# Altium integrated library TI_Logic_Gate.IntLib: 2017 symbols (part 39 of 56)
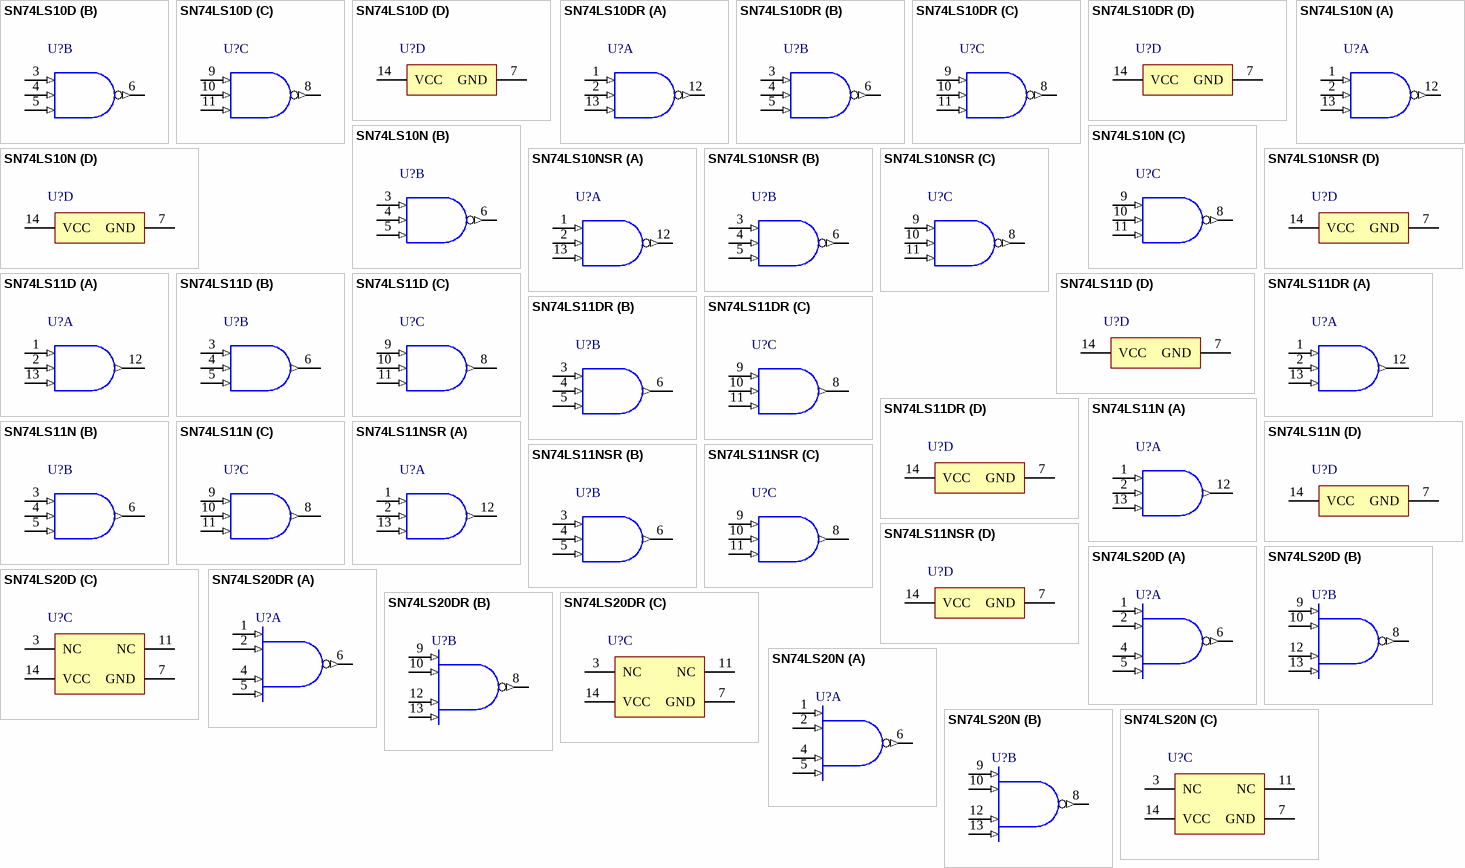
[diagram p263: symbols SN74LS10D to SN74LS20N]

## SN74LS20N
designator U?
Dual 4-input positive-NAND gates, N0014A, TUBE; Generic Part Number: SN74LS20; Manufacturer: Texas Instruments; PartNumber: SN74LS20N; VCC(Min)(V): 4.75; VCC(Max)(V): 5.25; Output Type: TTL; ICC @ Nom Voltage(Max)(mA): 0.011; Bits(#): 2; F @ Nom Voltage(Max)(Mhz): 35; Rating: Catalog; Technology Family: LS; Voltage(Nom)(V): 5; Schmitt Trigger: No; Output Drive (IOL/IOH)(Max)(mA): 0.4/-16; tpd @ Nom Voltage(Max)(ns): 22; DatasheetVersion: SDLS079; PackageReference: N0014A; Supplier 1: Mouser; Supplier Part Number 1: 595-SN74LS20N; Supplier 2: Digi-Key; Supplier Part Number 2: 296-3670-5-ND; Input Type: TTL; Operating Temperature Range(C): 0 to 70; Code_JEDEC: MS-001; ComponentLink1Description: Manufacturer URL; ComponentLink1URL: http://www.ti.com/; ComponentLink2Description: Datasheet; ComponentLink2URL: http://www.ti.com/lit/ds/symlink/sn74ls20.pdf; ComponentLink3Description: Package Specification; ComponentLink3URL: http://www.ti.com/lit/ml/mpdi002c/mpdi002c.pdf
footprint N0014A (DIP, 14-Leads, Body 19.7x6.6mm, Pitch 2.54mm)
part A pins: 1 1A (in), 2 1B (in), 4 1C (in), 5 1D (in), 6 1Y (out)
part B pins: 8 2Y (out), 9 2A (in), 10 2B (in), 12 2C (in), 13 2D (in)
part C pins: 3 NC, 7 GND (power), 11 NC, 14 VCC (power)

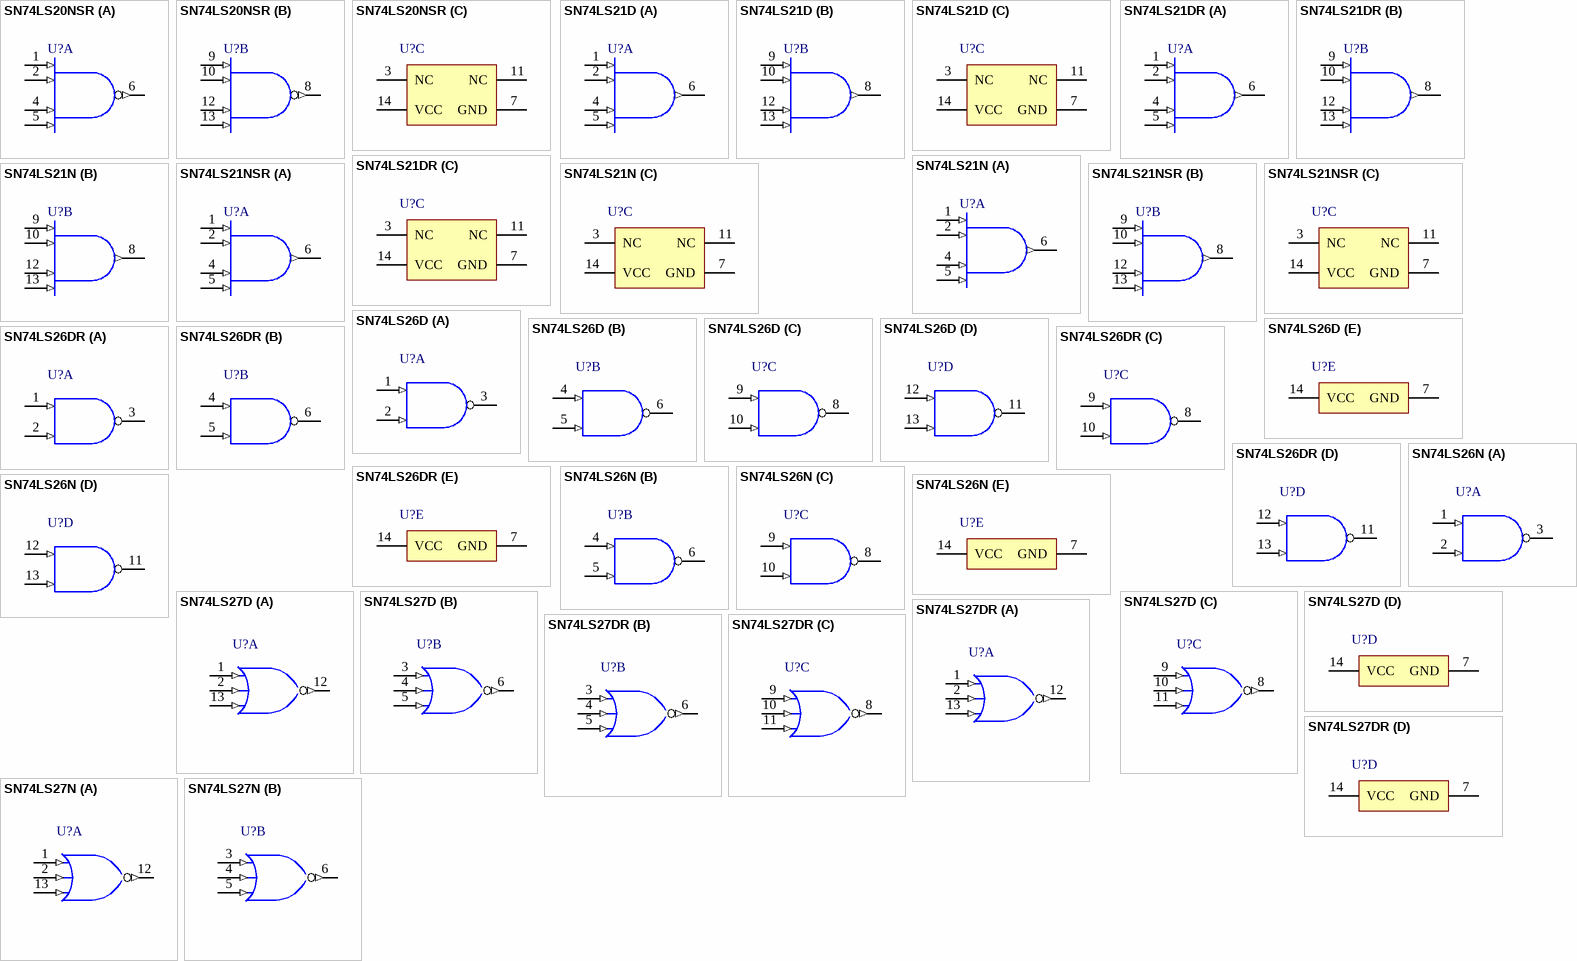
[diagram p153: symbols SN74LS20NSR to SN74LS27N]

## SN74LS20NSR
designator U?
Dual 4-input positive-NAND gates, NS0014A, LARGE T&R; Generic Part Number: SN74LS20; Manufacturer: Texas Instruments; PartNumber: SN74LS20NSR; VCC(Min)(V): 4.75; VCC(Max)(V): 5.25; Output Type: TTL; ICC @ Nom Voltage(Max)(mA): 0.011; Bits(#): 2; F @ Nom Voltage(Max)(Mhz): 35; Rating: Catalog; Technology Family: LS; Voltage(Nom)(V): 5; Schmitt Trigger: No; Output Drive (IOL/IOH)(Max)(mA): 0.4/-16; tpd @ Nom Voltage(Max)(ns): 22; DatasheetVersion: SDLS079; PackageReference: NS0014A; Supplier 1: Mouser; Supplier Part Number 1: 595-SN74LS20NSR; Supplier 2: Digi-Key; Supplier Part Number 2: 296-28848-2-ND; Supplier 3: Digi-Key; Supplier Part Number 3: 296-28848-1-ND; Supplier 4: Digi-Key; Supplier Part Number 4: 296-28848-6-ND; Input Type: TTL; Operating Temperature Range(C): 0 to 70; ComponentLink1Description: Manufacturer URL; ComponentLink1URL: http://www.ti.com/; ComponentLink2Description: Datasheet; ComponentLink2URL: http://www.ti.com/lit/ds/symlink/sn74ls20.pdf; ComponentLink3Description: Package Specification; ComponentLink3URL: http://www.ti.com/lit/ml/msop002a/msop002a.pdf
footprint NS0014A_N (SOIC,14-Leads,Body 10.5x5.6mm,Pitch 1.27mm,IPC Medium Density)
footprint NS0014A_M (SOIC,14-Leads,Body 10.5x5.6mm,Pitch 1.27mm,IPC Low Density)
footprint NS0014A_L (SOIC,14-Leads,Body 10.5x5.6mm,Pitch 0.4mm,IPC High Density)
part A pins: 1 1A (in), 2 1B (in), 4 1C (in), 5 1D (in), 6 1Y (out)
part B pins: 8 2Y (out), 9 2A (in), 10 2B (in), 12 2C (in), 13 2D (in)
part C pins: 3 NC, 7 GND (power), 11 NC, 14 VCC (power)

## SN74LS21D
designator U?
Dual 4-input positive-AND gates, D0014A, TUBE; Generic Part Number: SN74LS21; Manufacturer: Texas Instruments; PartNumber: SN74LS21D; VCC(Min)(V): 4.75; VCC(Max)(V): 5.25; Output Type: TTL; ICC @ Nom Voltage(Max)(mA): 0.0025; Bits(#): 2; F @ Nom Voltage(Max)(Mhz): 35; Rating: Catalog; Technology Family: LS; Voltage(Nom)(V): 5; Schmitt Trigger: No; Output Drive (IOL/IOH)(Max)(mA): -.04/8; tpd @ Nom Voltage(Max)(ns): 15; DatasheetVersion: SDLS139; PackageReference: D0014A; Supplier 1: Mouser; Supplier Part Number 1: 595-SN74LS21D; Supplier 2: Digi-Key; Supplier Part Number 2: 296-3671-5-ND; Input Type: TTL; Operating Temperature Range(C): 0 to 70; ComponentLink1Description: Manufacturer URL; ComponentLink1URL: http://www.ti.com/; ComponentLink2Description: Datasheet; ComponentLink2URL: http://www.ti.com/lit/ds/symlink/sn74ls21.pdf
footprint D0014A_N (SOIC, 14-Leads, Body 8.75x4mm, Pitch 1.27mm, IPC Medium Density)
footprint D0014A_M (SOIC, 14-Leads, Body 8.75x4mm, Pitch 1.27mm, IPC Low Density)
footprint D0014A_L (SOIC, 14-Leads, Body 8.75x4mm, Pitch 1.27mm, IPC High Density)
part A pins: 1 1A (in), 2 1B (in), 4 1C (in), 5 1D (in), 6 1Y (out)
part B pins: 8 2Y (out), 9 2A (in), 10 2B (in), 12 2C (in), 13 2D (in)
part C pins: 3 NC, 7 GND (power), 11 NC, 14 VCC (power)

## SN74LS21DR
designator U?
Dual 4-input positive-AND gates, D0014A, LARGE T&R; Generic Part Number: SN74LS21; Manufacturer: Texas Instruments; PartNumber: SN74LS21DR; VCC(Min)(V): 4.75; VCC(Max)(V): 5.25; Output Type: TTL; ICC @ Nom Voltage(Max)(mA): 0.0025; Bits(#): 2; F @ Nom Voltage(Max)(Mhz): 35; Rating: Catalog; Technology Family: LS; Voltage(Nom)(V): 5; Schmitt Trigger: No; Output Drive (IOL/IOH)(Max)(mA): -.04/8; tpd @ Nom Voltage(Max)(ns): 15; DatasheetVersion: SDLS139; PackageReference: D0014A; Supplier 1: Mouser; Supplier Part Number 1: 595-SN74LS21DR; Supplier 2: Digi-Key; Supplier Part Number 2: 296-38800-2-ND; Supplier 3: Digi-Key; Supplier Part Number 3: 296-38800-1-ND; Supplier 4: Digi-Key; Supplier Part Number 4: 296-38800-6-ND; Input Type: TTL; Operating Temperature Range(C): 0 to 70; ComponentLink1Description: Manufacturer URL; ComponentLink1URL: http://www.ti.com/; ComponentLink2Description: Datasheet; ComponentLink2URL: http://www.ti.com/lit/ds/symlink/sn74ls21.pdf
footprint D0014A_N (SOIC, 14-Leads, Body 8.75x4mm, Pitch 1.27mm, IPC Medium Density)
footprint D0014A_M (SOIC, 14-Leads, Body 8.75x4mm, Pitch 1.27mm, IPC Low Density)
footprint D0014A_L (SOIC, 14-Leads, Body 8.75x4mm, Pitch 1.27mm, IPC High Density)
part A pins: 1 1A (in), 2 1B (in), 4 1C (in), 5 1D (in), 6 1Y (out)
part B pins: 8 2Y (out), 9 2A (in), 10 2B (in), 12 2C (in), 13 2D (in)
part C pins: 3 NC, 7 GND (power), 11 NC, 14 VCC (power)

## SN74LS21N
designator U?
Dual 4-input positive-AND gates, N0014A, TUBE; Generic Part Number: SN74LS21; Manufacturer: Texas Instruments; PartNumber: SN74LS21N; VCC(Min)(V): 4.75; VCC(Max)(V): 5.25; Output Type: TTL; ICC @ Nom Voltage(Max)(mA): 0.0025; Bits(#): 2; F @ Nom Voltage(Max)(Mhz): 35; Rating: Catalog; Technology Family: LS; Voltage(Nom)(V): 5; Schmitt Trigger: No; Output Drive (IOL/IOH)(Max)(mA): -.04/8; tpd @ Nom Voltage(Max)(ns): 15; DatasheetVersion: SDLS139; PackageReference: N0014A; Supplier 1: Mouser; Supplier Part Number 1: 595-SN74LS21N; Supplier 2: Digi-Key; Supplier Part Number 2: 296-3672-5-ND; Input Type: TTL; Operating Temperature Range(C): 0 to 70; ComponentLink1Description: Manufacturer URL; ComponentLink1URL: http://www.ti.com/; ComponentLink2Description: Datasheet; ComponentLink2URL: http://www.ti.com/lit/ds/symlink/sn74ls21.pdf
footprint N0014A (DIP, 14-Leads, Body 19.7x6.6mm, Pitch 2.54mm)
part A pins: 1 1A (in), 2 1B (in), 4 1C (in), 5 1D (in), 6 1Y (out)
part B pins: 8 2Y (out), 9 2A (in), 10 2B (in), 12 2C (in), 13 2D (in)
part C pins: 3 NC, 7 GND (power), 11 NC, 14 VCC (power)

## SN74LS21NSR
designator U?
Dual 4-input positive-AND gates, NS0014A, LARGE T&R; Generic Part Number: SN74LS21; Manufacturer: Texas Instruments; PartNumber: SN74LS21NSR; VCC(Min)(V): 4.75; VCC(Max)(V): 5.25; Output Type: TTL; ICC @ Nom Voltage(Max)(mA): 0.0025; Bits(#): 2; F @ Nom Voltage(Max)(Mhz): 35; Rating: Catalog; Technology Family: LS; Voltage(Nom)(V): 5; Schmitt Trigger: No; Output Drive (IOL/IOH)(Max)(mA): -.04/8; tpd @ Nom Voltage(Max)(ns): 15; DatasheetVersion: SDLS139; PackageReference: NS0014A; Supplier 1: Mouser; Supplier Part Number 1: 595-SN74LS21NSR; Supplier 2: Digi-Key; Supplier Part Number 2: 296-38239-2-ND; Supplier 3: Digi-Key; Supplier Part Number 3: 296-38239-1-ND; Supplier 4: Digi-Key; Supplier Part Number 4: 296-38239-6-ND; Input Type: TTL; Operating Temperature Range(C): 0 to 70; ComponentLink1Description: Manufacturer URL; ComponentLink1URL: http://www.ti.com/; ComponentLink2Description: Datasheet; ComponentLink2URL: http://www.ti.com/lit/ds/symlink/sn74ls21.pdf
footprint NS0014A_N (SOIC,14-Leads,Body 10.5x5.6mm,Pitch 1.27mm,IPC Medium Density)
footprint NS0014A_M (SOIC,14-Leads,Body 10.5x5.6mm,Pitch 1.27mm,IPC Low Density)
footprint NS0014A_L (SOIC,14-Leads,Body 10.5x5.6mm,Pitch 0.4mm,IPC High Density)
part A pins: 1 1A (in), 2 1B (in), 4 1C (in), 5 1D (in), 6 1Y (out)
part B pins: 8 2Y (out), 9 2A (in), 10 2B (in), 12 2C (in), 13 2D (in)
part C pins: 3 NC, 7 GND (power), 11 NC, 14 VCC (power)

## SN74LS26D
designator U?
Quad 2-input high-voltage interface positive-NAND gates, D0014A, TUBE; Generic Part Number: SN74LS26; Manufacturer: Texas Instruments; PartNumber: SN74LS26D; VCC(Min)(V): 4.75; VCC(Max)(V): 5.25; Output Type: TTL; ICC @ Nom Voltage(Max)(mA): 0.0044; Bits(#): 4; F @ Nom Voltage(Max)(Mhz): 35; Rating: Catalog; Technology Family: LS; Voltage(Nom)(V): 5; Schmitt Trigger: No; Output Drive (IOL/IOH)(Max)(mA): 0/-8; tpd @ Nom Voltage(Max)(ns): 32; DatasheetVersion: SDLS087; PackageReference: D0014A; Supplier 1: Mouser; Supplier Part Number 1: 595-SN74LS26D; Supplier 2: Digi-Key; Supplier Part Number 2: SN74LS26D-ND; Input Type: TTL; Operating Temperature Range(C): 0 to 70; Code_JEDEC: MS-012; ComponentLink1Description: Manufacturer URL; ComponentLink1URL: http://www.ti.com/; ComponentLink2Description: Datasheet; ComponentLink2URL: http://www.ti.com/lit/ds/symlink/sn74ls26.pdf; ComponentLink3Description: Package Specification; ComponentLink3URL: http://www.ti.com/lit/ml/mpds177g/mpds177g.pdf
footprint D0014A_N (SOIC, 14-Leads, Body 8.75x4mm, Pitch 1.27mm, IPC Medium Density)
footprint D0014A_M (SOIC, 14-Leads, Body 8.75x4mm, Pitch 1.27mm, IPC Low Density)
footprint D0014A_L (SOIC, 14-Leads, Body 8.75x4mm, Pitch 1.27mm, IPC High Density)
part A pins: 1 1A (in), 2 1B (in), 3 1Y (oc)
part B pins: 4 2A (in), 5 2B (in), 6 2Y (oc)
part C pins: 8 3Y (oc), 9 3A (in), 10 3B (in)
part D pins: 11 4Y (oc), 12 4A (in), 13 4B (in)
part E pins: 7 GND (power), 14 VCC (power)

## SN74LS26DR
designator U?
Quad 2-input high-voltage interface positive-NAND gates, D0014A, LARGE T&R; Generic Part Number: SN74LS26; Manufacturer: Texas Instruments; PartNumber: SN74LS26DR; VCC(Min)(V): 4.75; VCC(Max)(V): 5.25; Output Type: TTL; ICC @ Nom Voltage(Max)(mA): 0.0044; Bits(#): 4; F @ Nom Voltage(Max)(Mhz): 35; Rating: Catalog; Technology Family: LS; Voltage(Nom)(V): 5; Schmitt Trigger: No; Output Drive (IOL/IOH)(Max)(mA): 0/-8; tpd @ Nom Voltage(Max)(ns): 32; DatasheetVersion: SDLS087; PackageReference: D0014A; Supplier 1: Mouser; Supplier Part Number 1: 595-SN74LS26DR; Supplier 2: Digi-Key; Supplier Part Number 2: 296-29005-2-ND; Supplier 3: Digi-Key; Supplier Part Number 3: 296-29005-1-ND; Supplier 4: Digi-Key; Supplier Part Number 4: 296-29005-6-ND; Input Type: TTL; Operating Temperature Range(C): 0 to 70; Code_JEDEC: MS-012; ComponentLink1Description: Manufacturer URL; ComponentLink1URL: http://www.ti.com/; ComponentLink2Description: Datasheet; ComponentLink2URL: http://www.ti.com/lit/ds/symlink/sn74ls26.pdf; ComponentLink3Description: Package Specification; ComponentLink3URL: http://www.ti.com/lit/ml/mpds177g/mpds177g.pdf
footprint D0014A_N (SOIC, 14-Leads, Body 8.75x4mm, Pitch 1.27mm, IPC Medium Density)
footprint D0014A_M (SOIC, 14-Leads, Body 8.75x4mm, Pitch 1.27mm, IPC Low Density)
footprint D0014A_L (SOIC, 14-Leads, Body 8.75x4mm, Pitch 1.27mm, IPC High Density)
part A pins: 1 1A (in), 2 1B (in), 3 1Y (oc)
part B pins: 4 2A (in), 5 2B (in), 6 2Y (oc)
part C pins: 8 3Y (oc), 9 3A (in), 10 3B (in)
part D pins: 11 4Y (oc), 12 4A (in), 13 4B (in)
part E pins: 7 GND (power), 14 VCC (power)

## SN74LS26N
designator U?
Quad 2-input high-voltage interface positive-NAND gates, N0014A, TUBE; Generic Part Number: SN74LS26; Manufacturer: Texas Instruments; PartNumber: SN74LS26N; VCC(Min)(V): 4.75; VCC(Max)(V): 5.25; Output Type: TTL; ICC @ Nom Voltage(Max)(mA): 0.0044; Bits(#): 4; F @ Nom Voltage(Max)(Mhz): 35; Rating: Catalog; Technology Family: LS; Voltage(Nom)(V): 5; Schmitt Trigger: No; Output Drive (IOL/IOH)(Max)(mA): 0/-8; tpd @ Nom Voltage(Max)(ns): 32; DatasheetVersion: SDLS087; PackageReference: N0014A; Supplier 1: Mouser; Supplier Part Number 1: 595-SN74LS26N; Supplier 2: Digi-Key; Supplier Part Number 2: 296-26511-5-ND; Input Type: TTL; Operating Temperature Range(C): 0 to 70; Code_JEDEC: MS-001; ComponentLink1Description: Manufacturer URL; ComponentLink1URL: http://www.ti.com/; ComponentLink2Description: Datasheet; ComponentLink2URL: http://www.ti.com/lit/ds/symlink/sn74ls26.pdf; ComponentLink3Description: Package Specification; ComponentLink3URL: http://www.ti.com/lit/ml/mpdi002c/mpdi002c.pdf
footprint N0014A (DIP, 14-Leads, Body 19.7x6.6mm, Pitch 2.54mm)
part A pins: 1 1A (in), 2 1B (in), 3 1Y (oc)
part B pins: 4 2A (in), 5 2B (in), 6 2Y (oc)
part C pins: 8 3Y (oc), 9 3A (in), 10 3B (in)
part D pins: 11 4Y (oc), 12 4A (in), 13 4B (in)
part E pins: 7 GND (power), 14 VCC (power)

## SN74LS27D
designator U?
Triple 3-input positive-NOR gates, D0014A, TUBE; Generic Part Number: SN74LS27; Manufacturer: Texas Instruments; PartNumber: SN74LS27D; VCC(Min)(V): 4.75; VCC(Max)(V): 5.25; Output Type: TTL; Bits(#): 3; Rating: Catalog; tpd @ Nom Voltage(Max)(ns): 15; ICC @ Nom Voltage(Max)(mA): 0.026; F @ Nom Voltage(Max)(Mhz): 35; Voltage(Nom)(V): 5; Output Drive (IOL/IOH)(Max)(mA): 0.8/-16; DatasheetVersion: SDLS089; PackageReference: D0014A; Input Type: TTL; Operating Temperature Range(C): 0 to 70; Code_JEDEC: MS-012; ComponentLink1Description: Manufacturer URL; ComponentLink1URL: http://www.ti.com/; ComponentLink2Description: Datasheet; ComponentLink2URL: http://www.ti.com/lit/ds/symlink/sn74ls27.pdf; ComponentLink3Description: Package Specification; ComponentLink3URL: http://www.ti.com/lit/ml/mpds177g/mpds177g.pdf
footprint D0014A_N (SOIC, 14-Leads, Body 8.75x4mm, Pitch 1.27mm, IPC Medium Density)
footprint D0014A_M (SOIC, 14-Leads, Body 8.75x4mm, Pitch 1.27mm, IPC Low Density)
footprint D0014A_L (SOIC, 14-Leads, Body 8.75x4mm, Pitch 1.27mm, IPC High Density)
part A pins: 1 1A (in), 2 1B (in), 12 1Y (out), 13 1C (in)
part B pins: 3 2A (in), 4 2B (in), 5 2C (in), 6 2Y (out)
part C pins: 8 3Y (out), 9 3A (in), 10 3B (in), 11 3C (in)
part D pins: 7 GND (power), 14 VCC (power)

## SN74LS27DR
designator U?
Triple 3-input positive-NOR gates, D0014A, LARGE T&R; Generic Part Number: SN74LS27; Manufacturer: Texas Instruments; PartNumber: SN74LS27DR; VCC(Min)(V): 4.75; VCC(Max)(V): 5.25; Output Type: TTL; Bits(#): 3; Rating: Catalog; tpd @ Nom Voltage(Max)(ns): 15; ICC @ Nom Voltage(Max)(mA): 0.026; F @ Nom Voltage(Max)(Mhz): 35; Voltage(Nom)(V): 5; Output Drive (IOL/IOH)(Max)(mA): 0.8/-16; DatasheetVersion: SDLS089; PackageReference: D0014A; Input Type: TTL; Operating Temperature Range(C): 0 to 70; Code_JEDEC: MS-012; ComponentLink1Description: Manufacturer URL; ComponentLink1URL: http://www.ti.com/; ComponentLink2Description: Datasheet; ComponentLink2URL: http://www.ti.com/lit/ds/symlink/sn74ls27.pdf; ComponentLink3Description: Package Specification; ComponentLink3URL: http://www.ti.com/lit/ml/mpds177g/mpds177g.pdf
footprint D0014A_N (SOIC, 14-Leads, Body 8.75x4mm, Pitch 1.27mm, IPC Medium Density)
footprint D0014A_M (SOIC, 14-Leads, Body 8.75x4mm, Pitch 1.27mm, IPC Low Density)
footprint D0014A_L (SOIC, 14-Leads, Body 8.75x4mm, Pitch 1.27mm, IPC High Density)
part A pins: 1 1A (in), 2 1B (in), 12 1Y (out), 13 1C (in)
part B pins: 3 2A (in), 4 2B (in), 5 2C (in), 6 2Y (out)
part C pins: 8 3Y (out), 9 3A (in), 10 3B (in), 11 3C (in)
part D pins: 7 GND (power), 14 VCC (power)

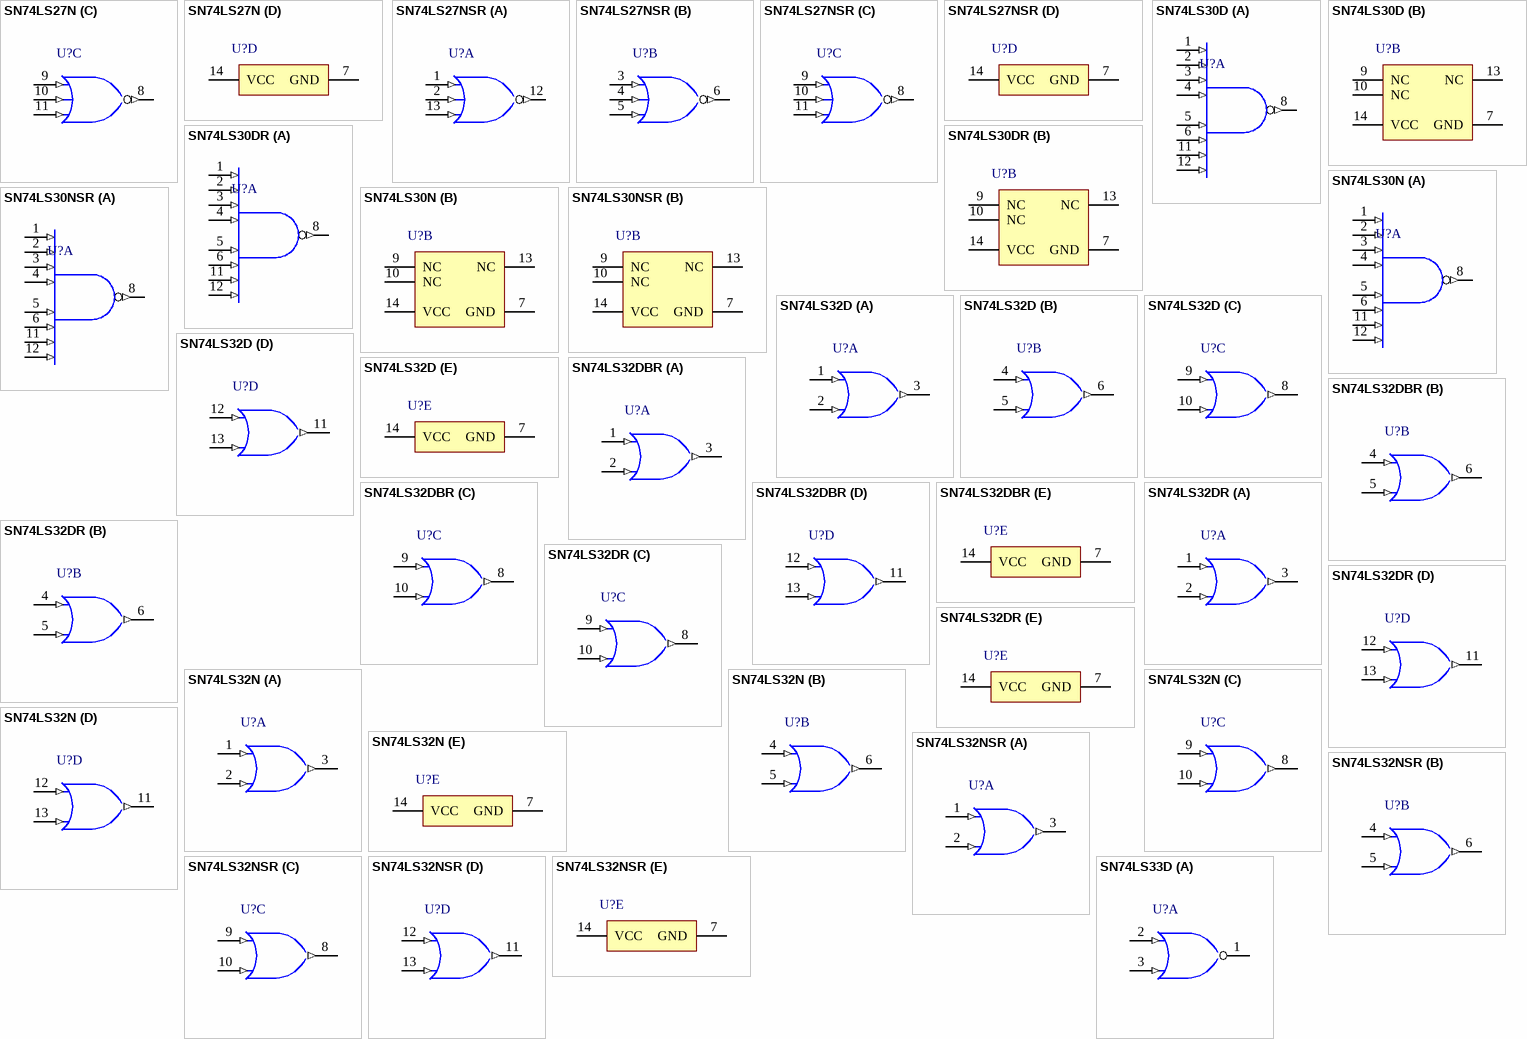
[diagram p154: symbols SN74LS27N to SN74LS33D]

## SN74LS27N
designator U?
Triple 3-input positive-NOR gates, N0014A, TUBE; Generic Part Number: SN74LS27; Manufacturer: Texas Instruments; PartNumber: SN74LS27N; VCC(Min)(V): 4.75; VCC(Max)(V): 5.25; Output Type: TTL; Bits(#): 3; Rating: Catalog; tpd @ Nom Voltage(Max)(ns): 15; ICC @ Nom Voltage(Max)(mA): 0.026; F @ Nom Voltage(Max)(Mhz): 35; Voltage(Nom)(V): 5; Output Drive (IOL/IOH)(Max)(mA): 0.8/-16; DatasheetVersion: SDLS089; PackageReference: N0014A; Input Type: TTL; Operating Temperature Range(C): 0 to 70; Code_JEDEC: MS-001; ComponentLink1Description: Manufacturer URL; ComponentLink1URL: http://www.ti.com/; ComponentLink2Description: Datasheet; ComponentLink2URL: http://www.ti.com/lit/ds/symlink/sn74ls27.pdf; ComponentLink3Description: Package Specification; ComponentLink3URL: http://www.ti.com/lit/ml/mpdi002c/mpdi002c.pdf
footprint N0014A (DIP, 14-Leads, Body 19.7x6.6mm, Pitch 2.54mm)
part A pins: 1 1A (in), 2 1B (in), 12 1Y (out), 13 1C (in)
part B pins: 3 2A (in), 4 2B (in), 5 2C (in), 6 2Y (out)
part C pins: 8 3Y (out), 9 3A (in), 10 3B (in), 11 3C (in)
part D pins: 7 GND (power), 14 VCC (power)

## SN74LS27NSR
designator U?
Triple 3-input positive-NOR gates, NS0014A, LARGE T&R; Generic Part Number: SN74LS27; Manufacturer: Texas Instruments; PartNumber: SN74LS27NSR; VCC(Min)(V): 4.75; VCC(Max)(V): 5.25; Output Type: TTL; Bits(#): 3; Rating: Catalog; tpd @ Nom Voltage(Max)(ns): 15; ICC @ Nom Voltage(Max)(mA): 0.026; F @ Nom Voltage(Max)(Mhz): 35; Voltage(Nom)(V): 5; Output Drive (IOL/IOH)(Max)(mA): 0.8/-16; DatasheetVersion: SDLS089; PackageReference: NS0014A; Input Type: TTL; Operating Temperature Range(C): 0 to 70; ComponentLink1Description: Manufacturer URL; ComponentLink1URL: http://www.ti.com/; ComponentLink2Description: Datasheet; ComponentLink2URL: http://www.ti.com/lit/ds/symlink/sn74ls27.pdf; ComponentLink3Description: Package Specification; ComponentLink3URL: http://www.ti.com/lit/ml/msop002a/msop002a.pdf
footprint NS0014A_N (SOIC,14-Leads,Body 10.5x5.6mm,Pitch 1.27mm,IPC Medium Density)
footprint NS0014A_M (SOIC,14-Leads,Body 10.5x5.6mm,Pitch 1.27mm,IPC Low Density)
footprint NS0014A_L (SOIC,14-Leads,Body 10.5x5.6mm,Pitch 0.4mm,IPC High Density)
part A pins: 1 1A (in), 2 1B (in), 12 1Y (out), 13 1C (in)
part B pins: 3 2A (in), 4 2B (in), 5 2C (in), 6 2Y (out)
part C pins: 8 3Y (out), 9 3A (in), 10 3B (in), 11 3C (in)
part D pins: 7 GND (power), 14 VCC (power)

## SN74LS30D
designator U?
8-input positive-NAND gates, D0014A, TUBE; Generic Part Number: SN74LS30; Manufacturer: Texas Instruments; PartNumber: SN74LS30D; VCC(Min)(V): 4.75; VCC(Max)(V): 5.25; Output Type: TTL; ICC @ Nom Voltage(Max)(mA): 0.006; Bits(#): 1; F @ Nom Voltage(Max)(Mhz): 35; Rating: Catalog; Technology Family: LS; Voltage(Nom)(V): 5; Schmitt Trigger: No; Output Drive (IOL/IOH)(Max)(mA): 0.4/-16; tpd @ Nom Voltage(Max)(ns): 22; DatasheetVersion: SDLS099; PackageReference: D0014A; Supplier 1: Mouser; Supplier Part Number 1: 595-SN74LS30D; Supplier 2: Digi-Key; Supplier Part Number 2: 296-33991-5-ND; Input Type: TTL; Operating Temperature Range(C): 0 to 70; Code_JEDEC: MS-012; ComponentLink1Description: Manufacturer URL; ComponentLink1URL: http://www.ti.com/; ComponentLink2Description: Datasheet; ComponentLink2URL: http://www.ti.com/lit/ds/symlink/sn74ls30.pdf; ComponentLink3Description: Package Specification; ComponentLink3URL: http://www.ti.com/lit/ml/mpds177g/mpds177g.pdf
footprint D0014A_N (SOIC, 14-Leads, Body 8.75x4mm, Pitch 1.27mm, IPC Medium Density)
footprint D0014A_M (SOIC, 14-Leads, Body 8.75x4mm, Pitch 1.27mm, IPC Low Density)
footprint D0014A_L (SOIC, 14-Leads, Body 8.75x4mm, Pitch 1.27mm, IPC High Density)
part A pins: 1 A (in), 2 B (in), 3 C (in), 4 D (in), 5 E (in), 6 F (in), 8 ~{Y} (out), 11 G (in), 12 H (in)
part B pins: 7 GND (power), 9 NC, 10 NC, 13 NC, 14 VCC (power)

## SN74LS30DR
designator U?
8-input positive-NAND gates, D0014A, LARGE T&R; Generic Part Number: SN74LS30; Manufacturer: Texas Instruments; PartNumber: SN74LS30DR; VCC(Min)(V): 4.75; VCC(Max)(V): 5.25; Output Type: TTL; ICC @ Nom Voltage(Max)(mA): 0.006; Bits(#): 1; F @ Nom Voltage(Max)(Mhz): 35; Rating: Catalog; Technology Family: LS; Voltage(Nom)(V): 5; Schmitt Trigger: No; Output Drive (IOL/IOH)(Max)(mA): 0.4/-16; tpd @ Nom Voltage(Max)(ns): 22; DatasheetVersion: SDLS099; PackageReference: D0014A; Supplier 1: Mouser; Supplier Part Number 1: 595-SN74LS30DR; Supplier 2: Digi-Key; Supplier Part Number 2: 296-29006-2-ND; Supplier 3: Digi-Key; Supplier Part Number 3: 296-29006-1-ND; Supplier 4: Digi-Key; Supplier Part Number 4: 296-29006-6-ND; Input Type: TTL; Operating Temperature Range(C): 0 to 70; Code_JEDEC: MS-012; ComponentLink1Description: Manufacturer URL; ComponentLink1URL: http://www.ti.com/; ComponentLink2Description: Datasheet; ComponentLink2URL: http://www.ti.com/lit/ds/symlink/sn74ls30.pdf; ComponentLink3Description: Package Specification; ComponentLink3URL: http://www.ti.com/lit/ml/mpds177g/mpds177g.pdf
footprint D0014A_N (SOIC, 14-Leads, Body 8.75x4mm, Pitch 1.27mm, IPC Medium Density)
footprint D0014A_M (SOIC, 14-Leads, Body 8.75x4mm, Pitch 1.27mm, IPC Low Density)
footprint D0014A_L (SOIC, 14-Leads, Body 8.75x4mm, Pitch 1.27mm, IPC High Density)
part A pins: 1 A (in), 2 B (in), 3 C (in), 4 D (in), 5 E (in), 6 F (in), 8 ~{Y} (out), 11 G (in), 12 H (in)
part B pins: 7 GND (power), 9 NC, 10 NC, 13 NC, 14 VCC (power)

## SN74LS30N
designator U?
8-input positive-NAND gates, N0014A, TUBE; Generic Part Number: SN74LS30; Manufacturer: Texas Instruments; PartNumber: SN74LS30N; VCC(Min)(V): 4.75; VCC(Max)(V): 5.25; Output Type: TTL; ICC @ Nom Voltage(Max)(mA): 0.006; Bits(#): 1; F @ Nom Voltage(Max)(Mhz): 35; Rating: Catalog; Technology Family: LS; Voltage(Nom)(V): 5; Schmitt Trigger: No; Output Drive (IOL/IOH)(Max)(mA): 0.4/-16; tpd @ Nom Voltage(Max)(ns): 22; DatasheetVersion: SDLS099; PackageReference: N0014A; Supplier 1: Mouser; Supplier Part Number 1: 595-SN74LS30N; Supplier 2: Digi-Key; Supplier Part Number 2: 296-3693-5-ND; Input Type: TTL; Operating Temperature Range(C): 0 to 70; Code_JEDEC: MS-001; ComponentLink1Description: Manufacturer URL; ComponentLink1URL: http://www.ti.com/; ComponentLink2Description: Datasheet; ComponentLink2URL: http://www.ti.com/lit/ds/symlink/sn74ls30.pdf; ComponentLink3Description: Package Specification; ComponentLink3URL: http://www.ti.com/lit/ml/mpdi002c/mpdi002c.pdf
footprint N0014A (DIP, 14-Leads, Body 19.7x6.6mm, Pitch 2.54mm)
part A pins: 1 A (in), 2 B (in), 3 C (in), 4 D (in), 5 E (in), 6 F (in), 8 ~{Y} (out), 11 G (in), 12 H (in)
part B pins: 7 GND (power), 9 NC, 10 NC, 13 NC, 14 VCC (power)

## SN74LS30NSR
designator U?
8-input positive-NAND gates, NS0014A, LARGE T&R; Generic Part Number: SN74LS30; Manufacturer: Texas Instruments; PartNumber: SN74LS30NSR; VCC(Min)(V): 4.75; VCC(Max)(V): 5.25; Output Type: TTL; ICC @ Nom Voltage(Max)(mA): 0.006; Bits(#): 1; F @ Nom Voltage(Max)(Mhz): 35; Rating: Catalog; Technology Family: LS; Voltage(Nom)(V): 5; Schmitt Trigger: No; Output Drive (IOL/IOH)(Max)(mA): 0.4/-16; tpd @ Nom Voltage(Max)(ns): 22; DatasheetVersion: SDLS099; PackageReference: NS0014A; Supplier 1: Mouser; Supplier Part Number 1: 595-SN74LS30NSR; Supplier 2: Digi-Key; Supplier Part Number 2: 296-28849-2-ND; Supplier 3: Digi-Key; Supplier Part Number 3: 296-28849-1-ND; Supplier 4: Digi-Key; Supplier Part Number 4: 296-28849-6-ND; Input Type: TTL; Operating Temperature Range(C): 0 to 70; ComponentLink1Description: Manufacturer URL; ComponentLink1URL: http://www.ti.com/; ComponentLink2Description: Datasheet; ComponentLink2URL: http://www.ti.com/lit/ds/symlink/sn74ls30.pdf; ComponentLink3Description: Package Specification; ComponentLink3URL: http://www.ti.com/lit/ml/msop002a/msop002a.pdf
footprint NS0014A_N (SOIC,14-Leads,Body 10.5x5.6mm,Pitch 1.27mm,IPC Medium Density)
footprint NS0014A_M (SOIC,14-Leads,Body 10.5x5.6mm,Pitch 1.27mm,IPC Low Density)
footprint NS0014A_L (SOIC,14-Leads,Body 10.5x5.6mm,Pitch 0.4mm,IPC High Density)
part A pins: 1 A (in), 2 B (in), 3 C (in), 4 D (in), 5 E (in), 6 F (in), 8 ~{Y} (out), 11 G (in), 12 H (in)
part B pins: 7 GND (power), 9 NC, 10 NC, 13 NC, 14 VCC (power)

## SN74LS32D
designator U?
Quad 2-input positive-OR gates, D0014A, TUBE; Generic Part Number: SN74LS32; Manufacturer: Texas Instruments; PartNumber: SN74LS32D; VCC(Min)(V): 4.75; VCC(Max)(V): 5.25; Output Type: TTL; ICC @ Nom Voltage(Max)(mA): 0.038; Bits(#): 4; F @ Nom Voltage(Max)(Mhz): 35; Rating: Catalog; Voltage(Nom)(V): 5; Output Drive (IOL/IOH)(Max)(mA): 0.8/-16; tpd @ Nom Voltage(Max)(ns): 22; DatasheetVersion: SDLS100; PackageReference: D0014A; Input Type: TTL; Operating Temperature Range(C): 0 to 70; Code_JEDEC: MS-012; ComponentLink1Description: Manufacturer URL; ComponentLink1URL: http://www.ti.com/; ComponentLink2Description: Datasheet; ComponentLink2URL: http://www.ti.com/lit/ds/symlink/sn74ls32.pdf; ComponentLink3Description: Package Specification; ComponentLink3URL: http://www.ti.com/lit/ml/mpds177g/mpds177g.pdf
footprint D0014A_N (SOIC, 14-Leads, Body 8.75x4mm, Pitch 1.27mm, IPC Medium Density)
footprint D0014A_M (SOIC, 14-Leads, Body 8.75x4mm, Pitch 1.27mm, IPC Low Density)
footprint D0014A_L (SOIC, 14-Leads, Body 8.75x4mm, Pitch 1.27mm, IPC High Density)
part A pins: 1 1A (in), 2 1B (in), 3 1Y (out)
part B pins: 4 2A (in), 5 2B (in), 6 2Y (out)
part C pins: 8 3Y (out), 9 3A (in), 10 3B (in)
part D pins: 11 4Y (out), 12 4A (in), 13 4B (in)
part E pins: 7 GND (power), 14 VCC (power)

## SN74LS32DBR
designator U?
Quad 2-input positive-OR gates, DB0014A, LARGE T&R; Generic Part Number: SN74LS32; Manufacturer: Texas Instruments; PartNumber: SN74LS32DBR; VCC(Min)(V): 4.75; VCC(Max)(V): 5.25; Output Type: TTL; ICC @ Nom Voltage(Max)(mA): 0.038; Bits(#): 4; F @ Nom Voltage(Max)(Mhz): 35; Rating: Catalog; Voltage(Nom)(V): 5; Output Drive (IOL/IOH)(Max)(mA): 0.8/-16; tpd @ Nom Voltage(Max)(ns): 22; DatasheetVersion: SDLS100; PackageReference: DB0014A; Input Type: TTL; Operating Temperature Range(C): 0 to 70; Code_JEDEC: MO-150; ComponentLink1Description: Manufacturer URL; ComponentLink1URL: http://www.ti.com/; ComponentLink2Description: Datasheet; ComponentLink2URL: http://www.ti.com/lit/ds/symlink/sn74ls32.pdf; ComponentLink3Description: Package Specification; ComponentLink3URL: http://www.ti.com/lit/ml/msso002e/msso002e.pdf
footprint DB0014A_N (SOP, 14-Leads, Body 5.6x6.5mm, Pitch 0.65mm, IPC Medium Density)
footprint DB0014A_M (SOP, 14-Leads, Body 5.6x6.5mm, Pitch 0.65mm, IPC Low Density)
footprint DB0014A_L (SOP, 14-Leads, Body 5.6x6.5mm, Pitch 0.65mm, IPC High Density)
part A pins: 1 1A (in), 2 1B (in), 3 1Y (out)
part B pins: 4 2A (in), 5 2B (in), 6 2Y (out)
part C pins: 8 3Y (out), 9 3A (in), 10 3B (in)
part D pins: 11 4Y (out), 12 4A (in), 13 4B (in)
part E pins: 7 GND (power), 14 VCC (power)

## SN74LS32DR
designator U?
Quad 2-input positive-OR gates, D0014A, LARGE T&R; Generic Part Number: SN74LS32; Manufacturer: Texas Instruments; PartNumber: SN74LS32DR; VCC(Min)(V): 4.75; VCC(Max)(V): 5.25; Output Type: TTL; ICC @ Nom Voltage(Max)(mA): 0.038; Bits(#): 4; F @ Nom Voltage(Max)(Mhz): 35; Rating: Catalog; Voltage(Nom)(V): 5; Output Drive (IOL/IOH)(Max)(mA): 0.8/-16; tpd @ Nom Voltage(Max)(ns): 22; DatasheetVersion: SDLS100; PackageReference: D0014A; Input Type: TTL; Operating Temperature Range(C): 0 to 70; Code_JEDEC: MS-012; ComponentLink1Description: Manufacturer URL; ComponentLink1URL: http://www.ti.com/; ComponentLink2Description: Datasheet; ComponentLink2URL: http://www.ti.com/lit/ds/symlink/sn74ls32.pdf; ComponentLink3Description: Package Specification; ComponentLink3URL: http://www.ti.com/lit/ml/mpds177g/mpds177g.pdf
footprint D0014A_N (SOIC, 14-Leads, Body 8.75x4mm, Pitch 1.27mm, IPC Medium Density)
footprint D0014A_M (SOIC, 14-Leads, Body 8.75x4mm, Pitch 1.27mm, IPC Low Density)
footprint D0014A_L (SOIC, 14-Leads, Body 8.75x4mm, Pitch 1.27mm, IPC High Density)
part A pins: 1 1A (in), 2 1B (in), 3 1Y (out)
part B pins: 4 2A (in), 5 2B (in), 6 2Y (out)
part C pins: 8 3Y (out), 9 3A (in), 10 3B (in)
part D pins: 11 4Y (out), 12 4A (in), 13 4B (in)
part E pins: 7 GND (power), 14 VCC (power)

## SN74LS32N
designator U?
Quad 2-input positive-OR gates, N0014A, TUBE; Generic Part Number: SN74LS32; Manufacturer: Texas Instruments; PartNumber: SN74LS32N; VCC(Min)(V): 4.75; VCC(Max)(V): 5.25; Output Type: TTL; ICC @ Nom Voltage(Max)(mA): 0.038; Bits(#): 4; F @ Nom Voltage(Max)(Mhz): 35; Rating: Catalog; Voltage(Nom)(V): 5; Output Drive (IOL/IOH)(Max)(mA): 0.8/-16; tpd @ Nom Voltage(Max)(ns): 22; DatasheetVersion: SDLS100; PackageReference: N0014A; Input Type: TTL; Operating Temperature Range(C): 0 to 70; Code_JEDEC: MS-001; ComponentLink1Description: Manufacturer URL; ComponentLink1URL: http://www.ti.com/; ComponentLink2Description: Datasheet; ComponentLink2URL: http://www.ti.com/lit/ds/symlink/sn74ls32.pdf; ComponentLink3Description: Package Specification; ComponentLink3URL: http://www.ti.com/lit/ml/mpdi002c/mpdi002c.pdf
footprint N0014A (DIP, 14-Leads, Body 19.7x6.6mm, Pitch 2.54mm)
part A pins: 1 1A (in), 2 1B (in), 3 1Y (out)
part B pins: 4 2A (in), 5 2B (in), 6 2Y (out)
part C pins: 8 3Y (out), 9 3A (in), 10 3B (in)
part D pins: 11 4Y (out), 12 4A (in), 13 4B (in)
part E pins: 7 GND (power), 14 VCC (power)

## SN74LS32NSR
designator U?
Quad 2-input positive-OR gates, NS0014A, LARGE T&R; Generic Part Number: SN74LS32; Manufacturer: Texas Instruments; PartNumber: SN74LS32NSR; VCC(Min)(V): 4.75; VCC(Max)(V): 5.25; Output Type: TTL; ICC @ Nom Voltage(Max)(mA): 0.038; Bits(#): 4; F @ Nom Voltage(Max)(Mhz): 35; Rating: Catalog; Voltage(Nom)(V): 5; Output Drive (IOL/IOH)(Max)(mA): 0.8/-16; tpd @ Nom Voltage(Max)(ns): 22; DatasheetVersion: SDLS100; PackageReference: NS0014A; Input Type: TTL; Operating Temperature Range(C): 0 to 70; ComponentLink1Description: Manufacturer URL; ComponentLink1URL: http://www.ti.com/; ComponentLink2Description: Datasheet; ComponentLink2URL: http://www.ti.com/lit/ds/symlink/sn74ls32.pdf; ComponentLink3Description: Package Specification; ComponentLink3URL: http://www.ti.com/lit/ml/msop002a/msop002a.pdf
footprint NS0014A_N (SOIC,14-Leads,Body 10.5x5.6mm,Pitch 1.27mm,IPC Medium Density)
footprint NS0014A_M (SOIC,14-Leads,Body 10.5x5.6mm,Pitch 1.27mm,IPC Low Density)
footprint NS0014A_L (SOIC,14-Leads,Body 10.5x5.6mm,Pitch 0.4mm,IPC High Density)
part A pins: 1 1A (in), 2 1B (in), 3 1Y (out)
part B pins: 4 2A (in), 5 2B (in), 6 2Y (out)
part C pins: 8 3Y (out), 9 3A (in), 10 3B (in)
part D pins: 11 4Y (out), 12 4A (in), 13 4B (in)
part E pins: 7 GND (power), 14 VCC (power)

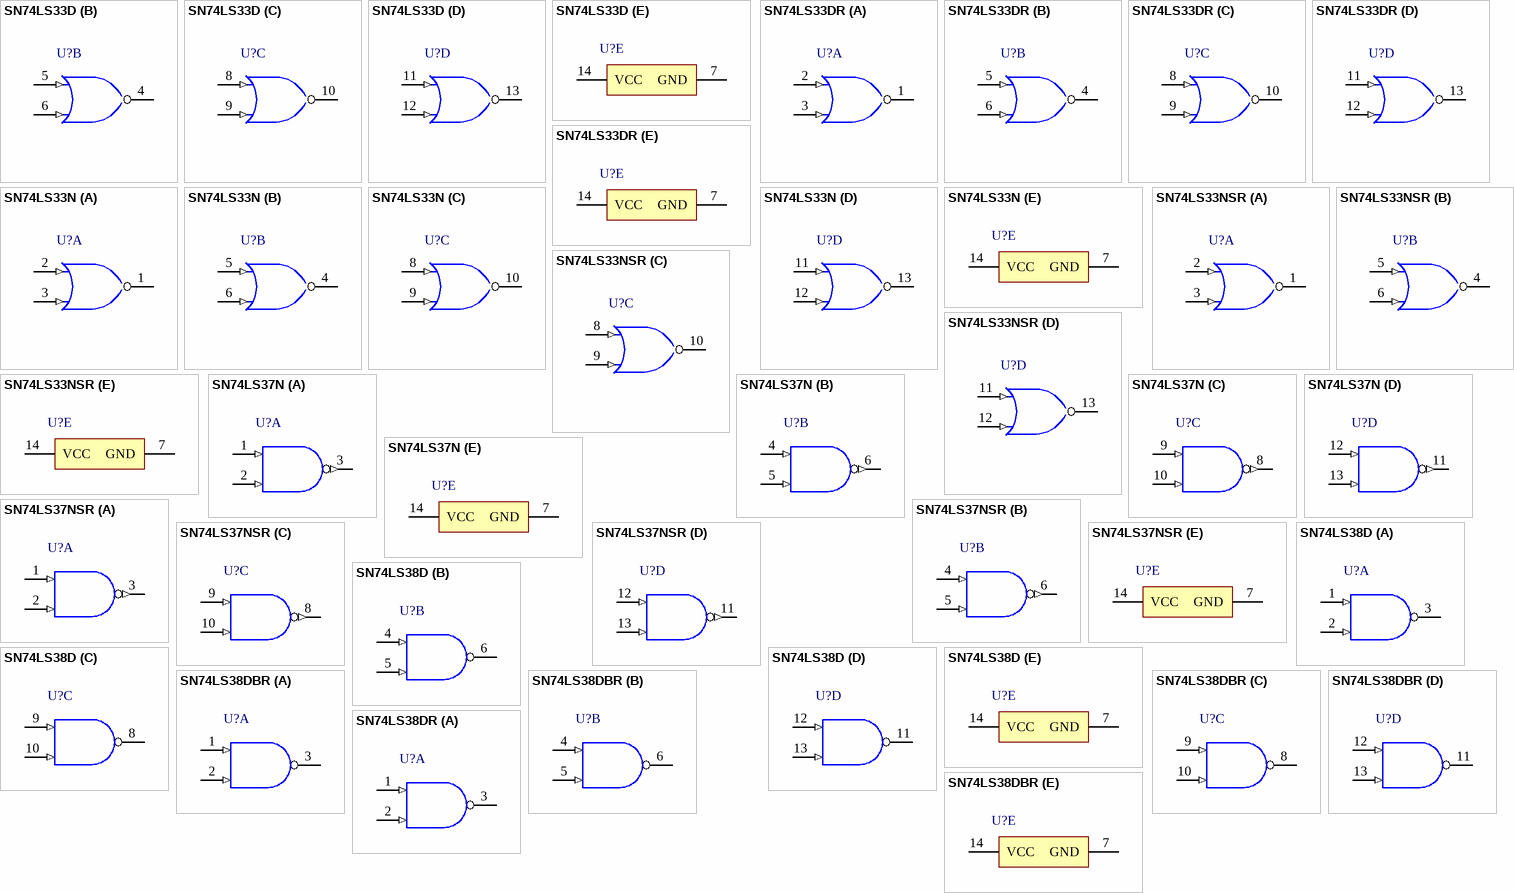
[diagram p155: symbols SN74LS33D to SN74LS38DR]

## SN74LS33D
designator U?
Quad 2-input positive-NOR buffers with open collector outputs, D0014A, TUBE; Generic Part Number: SN74LS33; Manufacturer: Texas Instruments; PartNumber: SN74LS33D; VCC(Min)(V): 4.75; VCC(Max)(V): 5.25; Output Type: TTL; Bits(#): 4; Rating: Catalog; tpd @ Nom Voltage(Max)(ns): 18; ICC @ Nom Voltage(Max)(mA): 0.0165; F @ Nom Voltage(Max)(Mhz): 35; Voltage(Nom)(V): 5; Output Drive (IOL/IOH)(Max)(mA): 0/-48; DatasheetVersion: SDLS101; PackageReference: D0014A; Input Type: TTL; Operating Temperature Range(C): 0 to 70; Code_JEDEC: MS-012; ComponentLink1Description: Manufacturer URL; ComponentLink1URL: http://www.ti.com/; ComponentLink2Description: Datasheet; ComponentLink2URL: http://www.ti.com/lit/ds/symlink/sn74ls33.pdf; ComponentLink3Description: Package Specification; ComponentLink3URL: http://www.ti.com/lit/ml/mpds177g/mpds177g.pdf
footprint D0014A_N (SOIC, 14-Leads, Body 8.75x4mm, Pitch 1.27mm, IPC Medium Density)
footprint D0014A_M (SOIC, 14-Leads, Body 8.75x4mm, Pitch 1.27mm, IPC Low Density)
footprint D0014A_L (SOIC, 14-Leads, Body 8.75x4mm, Pitch 1.27mm, IPC High Density)
part A pins: 1 1Y (oc), 2 1A (in), 3 1B (in)
part B pins: 4 2Y (oc), 5 2A (in), 6 2B (in)
part C pins: 8 3A (in), 9 3B (in), 10 3Y (oc)
part D pins: 11 4A (in), 12 4B (in), 13 4Y (oc)
part E pins: 7 GND (power), 14 VCC (power)

## SN74LS33DR
designator U?
Quad 2-input positive-NOR buffers with open collector outputs, D0014A, LARGE T&R; Generic Part Number: SN74LS33; Manufacturer: Texas Instruments; PartNumber: SN74LS33DR; VCC(Min)(V): 4.75; VCC(Max)(V): 5.25; Output Type: TTL; Bits(#): 4; Rating: Catalog; tpd @ Nom Voltage(Max)(ns): 18; ICC @ Nom Voltage(Max)(mA): 0.0165; F @ Nom Voltage(Max)(Mhz): 35; Voltage(Nom)(V): 5; Output Drive (IOL/IOH)(Max)(mA): 0/-48; DatasheetVersion: SDLS101; PackageReference: D0014A; Input Type: TTL; Operating Temperature Range(C): 0 to 70; Code_JEDEC: MS-012; ComponentLink1Description: Manufacturer URL; ComponentLink1URL: http://www.ti.com/; ComponentLink2Description: Datasheet; ComponentLink2URL: http://www.ti.com/lit/ds/symlink/sn74ls33.pdf; ComponentLink3Description: Package Specification; ComponentLink3URL: http://www.ti.com/lit/ml/mpds177g/mpds177g.pdf
footprint D0014A_N (SOIC, 14-Leads, Body 8.75x4mm, Pitch 1.27mm, IPC Medium Density)
footprint D0014A_M (SOIC, 14-Leads, Body 8.75x4mm, Pitch 1.27mm, IPC Low Density)
footprint D0014A_L (SOIC, 14-Leads, Body 8.75x4mm, Pitch 1.27mm, IPC High Density)
part A pins: 1 1Y (oc), 2 1A (in), 3 1B (in)
part B pins: 4 2Y (oc), 5 2A (in), 6 2B (in)
part C pins: 8 3A (in), 9 3B (in), 10 3Y (oc)
part D pins: 11 4A (in), 12 4B (in), 13 4Y (oc)
part E pins: 7 GND (power), 14 VCC (power)

## SN74LS33N
designator U?
Quad 2-input positive-NOR buffers with open collector outputs, N0014A, TUBE; Generic Part Number: SN74LS33; Manufacturer: Texas Instruments; PartNumber: SN74LS33N; VCC(Min)(V): 4.75; VCC(Max)(V): 5.25; Output Type: TTL; Bits(#): 4; Rating: Catalog; tpd @ Nom Voltage(Max)(ns): 18; ICC @ Nom Voltage(Max)(mA): 0.0165; F @ Nom Voltage(Max)(Mhz): 35; Voltage(Nom)(V): 5; Output Drive (IOL/IOH)(Max)(mA): 0/-48; DatasheetVersion: SDLS101; PackageReference: N0014A; Input Type: TTL; Operating Temperature Range(C): 0 to 70; Code_JEDEC: MS-001; ComponentLink1Description: Manufacturer URL; ComponentLink1URL: http://www.ti.com/; ComponentLink2Description: Datasheet; ComponentLink2URL: http://www.ti.com/lit/ds/symlink/sn74ls33.pdf; ComponentLink3Description: Package Specification; ComponentLink3URL: http://www.ti.com/lit/ml/mpdi002c/mpdi002c.pdf
footprint N0014A (DIP, 14-Leads, Body 19.7x6.6mm, Pitch 2.54mm)
part A pins: 1 1Y (oc), 2 1A (in), 3 1B (in)
part B pins: 4 2Y (oc), 5 2A (in), 6 2B (in)
part C pins: 8 3A (in), 9 3B (in), 10 3Y (oc)
part D pins: 11 4A (in), 12 4B (in), 13 4Y (oc)
part E pins: 7 GND (power), 14 VCC (power)

## SN74LS33NSR
designator U?
Quad 2-input positive-NOR buffers with open collector outputs, NS0014A, LARGE T&R; Generic Part Number: SN74LS33; Manufacturer: Texas Instruments; PartNumber: SN74LS33NSR; VCC(Min)(V): 4.75; VCC(Max)(V): 5.25; Output Type: TTL; Bits(#): 4; Rating: Catalog; tpd @ Nom Voltage(Max)(ns): 18; ICC @ Nom Voltage(Max)(mA): 0.0165; F @ Nom Voltage(Max)(Mhz): 35; Voltage(Nom)(V): 5; Output Drive (IOL/IOH)(Max)(mA): 0/-48; DatasheetVersion: SDLS101; PackageReference: NS0014A; Input Type: TTL; Operating Temperature Range(C): 0 to 70; ComponentLink1Description: Manufacturer URL; ComponentLink1URL: http://www.ti.com/; ComponentLink2Description: Datasheet; ComponentLink2URL: http://www.ti.com/lit/ds/symlink/sn74ls33.pdf; ComponentLink3Description: Package Specification; ComponentLink3URL: http://www.ti.com/lit/ml/msop002a/msop002a.pdf
footprint NS0014A_N (SOIC,14-Leads,Body 10.5x5.6mm,Pitch 1.27mm,IPC Medium Density)
footprint NS0014A_M (SOIC,14-Leads,Body 10.5x5.6mm,Pitch 1.27mm,IPC Low Density)
footprint NS0014A_L (SOIC,14-Leads,Body 10.5x5.6mm,Pitch 0.4mm,IPC High Density)
part A pins: 1 1Y (oc), 2 1A (in), 3 1B (in)
part B pins: 4 2Y (oc), 5 2A (in), 6 2B (in)
part C pins: 8 3A (in), 9 3B (in), 10 3Y (oc)
part D pins: 11 4A (in), 12 4B (in), 13 4Y (oc)
part E pins: 7 GND (power), 14 VCC (power)

## SN74LS37N
designator U?
Quad 2-input positive-NAND buffers, N0014A, TUBE; Generic Part Number: SN74LS37; Manufacturer: Texas Instruments; PartNumber: SN74LS37N; VCC(Min)(V): 4.75; VCC(Max)(V): 5.25; Output Type: TTL; ICC @ Nom Voltage(Max)(mA): 0.054; Bits(#): 4; F @ Nom Voltage(Max)(Mhz): 35; Rating: Catalog; Technology Family: LS; Voltage(Nom)(V): 5; Schmitt Trigger: No; Output Drive (IOL/IOH)(Max)(mA): 1.2/-48; tpd @ Nom Voltage(Max)(ns): 22; DatasheetVersion: SDLS103; PackageReference: N0014A; Supplier 1: Mouser; Supplier Part Number 1: 595-SN74LS37N; Supplier 2: Digi-Key; Supplier Part Number 2: 296-26514-5-ND; Input Type: TTL; Operating Temperature Range(C): 0 to 70; Code_JEDEC: MS-001; ComponentLink1Description: Manufacturer URL; ComponentLink1URL: http://www.ti.com/; ComponentLink2Description: Datasheet; ComponentLink2URL: http://www.ti.com/lit/ds/symlink/sn74ls37.pdf; ComponentLink3Description: Package Specification; ComponentLink3URL: http://www.ti.com/lit/ml/mpdi002c/mpdi002c.pdf
footprint N0014A (DIP, 14-Leads, Body 19.7x6.6mm, Pitch 2.54mm)
part A pins: 1 1A (in) "Gate 1 input", 2 1B (in) "Gate 1 input", 3 1Y (out) "Gate 1 output"
part B pins: 4 2A (in) "Gate 2 input", 5 2B (in) "Gate 2 input", 6 2Y (out) "Gate 2 output"
part C pins: 8 3Y (out) "Gate 3 output", 9 3A (in) "Gate 3 input", 10 3B (in) "Gate 3 input"
part D pins: 11 4Y (out) "Gate 4 output", 12 4A (in) "Gate 4 input", 13 4B (in) "Gate 4 input"
part E pins: 7 GND (power) "Ground Pin", 14 VCC (power) "Power Pin"

## SN74LS37NSR
designator U?
Quad 2-input positive-NAND buffers, NS0014A, LARGE T&R; Generic Part Number: SN74LS37; Manufacturer: Texas Instruments; PartNumber: SN74LS37NSR; VCC(Min)(V): 4.75; VCC(Max)(V): 5.25; Output Type: TTL; ICC @ Nom Voltage(Max)(mA): 0.054; Bits(#): 4; F @ Nom Voltage(Max)(Mhz): 35; Rating: Catalog; Technology Family: LS; Voltage(Nom)(V): 5; Schmitt Trigger: No; Output Drive (IOL/IOH)(Max)(mA): 1.2/-48; tpd @ Nom Voltage(Max)(ns): 22; DatasheetVersion: SDLS103; PackageReference: NS0014A; Supplier 1: Mouser; Supplier Part Number 1: 595-SN74LS37NSR; Supplier 2: Digi-Key; Supplier Part Number 2: 296-29373-2-ND; Supplier 3: Digi-Key; Supplier Part Number 3: 296-29373-1-ND; Supplier 4: Digi-Key; Supplier Part Number 4: 296-29373-6-ND; Input Type: TTL; Operating Temperature Range(C): 0 to 70; ComponentLink1Description: Manufacturer URL; ComponentLink1URL: http://www.ti.com/; ComponentLink2Description: Datasheet; ComponentLink2URL: http://www.ti.com/lit/ds/symlink/sn74ls37.pdf; ComponentLink3Description: Package Specification; ComponentLink3URL: http://www.ti.com/lit/ml/msop002a/msop002a.pdf
footprint NS0014A_N (SOIC,14-Leads,Body 10.5x5.6mm,Pitch 1.27mm,IPC Medium Density)
footprint NS0014A_M (SOIC,14-Leads,Body 10.5x5.6mm,Pitch 1.27mm,IPC Low Density)
footprint NS0014A_L (SOIC,14-Leads,Body 10.5x5.6mm,Pitch 0.4mm,IPC High Density)
part A pins: 1 1A (in) "Gate 1 input", 2 1B (in) "Gate 1 input", 3 1Y (out) "Gate 1 output"
part B pins: 4 2A (in) "Gate 2 input", 5 2B (in) "Gate 2 input", 6 2Y (out) "Gate 2 output"
part C pins: 8 3Y (out) "Gate 3 output", 9 3A (in) "Gate 3 input", 10 3B (in) "Gate 3 input"
part D pins: 11 4Y (out) "Gate 4 output", 12 4A (in) "Gate 4 input", 13 4B (in) "Gate 4 input"
part E pins: 7 GND (power) "Ground Pin", 14 VCC (power) "Power Pin"

## SN74LS38D
designator U?
Quad 2-input positive-NAND buffers with open collector outputs, D0014A, TUBE; Generic Part Number: SN74LS38; Manufacturer: Texas Instruments; PartNumber: SN74LS38D; VCC(Min)(V): 4.75; VCC(Max)(V): 5.25; Output Type: TTL; ICC @ Nom Voltage(Max)(mA): 0.012; Bits(#): 4; F @ Nom Voltage(Max)(Mhz): 35; Rating: Catalog; Technology Family: LS; Voltage(Nom)(V): 5; Schmitt Trigger: No; Output Drive (IOL/IOH)(Max)(mA): 0/-24; tpd @ Nom Voltage(Max)(ns): 32; DatasheetVersion: SDLS105; PackageReference: D0014A; Supplier 1: Mouser; Supplier Part Number 1: 595-SN74LS38D; Supplier 2: Digi-Key; Supplier Part Number 2: 296-3704-5-ND; Input Type: TTL; Operating Temperature Range(C): 0 to 70; Code_JEDEC: MS-012; ComponentLink1Description: Manufacturer URL; ComponentLink1URL: http://www.ti.com/; ComponentLink2Description: Datasheet; ComponentLink2URL: http://www.ti.com/lit/ds/symlink/sn74ls38.pdf; ComponentLink3Description: Package Specification; ComponentLink3URL: http://www.ti.com/lit/ml/mpds177g/mpds177g.pdf
footprint D0014A_N (SOIC, 14-Leads, Body 8.75x4mm, Pitch 1.27mm, IPC Medium Density)
footprint D0014A_M (SOIC, 14-Leads, Body 8.75x4mm, Pitch 1.27mm, IPC Low Density)
footprint D0014A_L (SOIC, 14-Leads, Body 8.75x4mm, Pitch 1.27mm, IPC High Density)
part A pins: 1 1A (in), 2 1B (in), 3 1Y (oc)
part B pins: 4 2A (in), 5 2B (in), 6 2Y (oc)
part C pins: 8 3Y (oc), 9 3A (in), 10 3B (in)
part D pins: 11 4Y (oc), 12 4A (in), 13 4B (in)
part E pins: 7 GND (power), 14 VCC (power)

## SN74LS38DBR
designator U?
Quad 2-input positive-NAND buffers with open collector outputs, DB0014A, LARGE T&R; Generic Part Number: SN74LS38; Manufacturer: Texas Instruments; PartNumber: SN74LS38DBR; VCC(Min)(V): 4.75; VCC(Max)(V): 5.25; Output Type: TTL; ICC @ Nom Voltage(Max)(mA): 0.012; Bits(#): 4; F @ Nom Voltage(Max)(Mhz): 35; Rating: Catalog; Technology Family: LS; Voltage(Nom)(V): 5; Schmitt Trigger: No; Output Drive (IOL/IOH)(Max)(mA): 0/-24; tpd @ Nom Voltage(Max)(ns): 32; DatasheetVersion: SDLS105; PackageReference: DB0014A; Supplier 1: Mouser; Supplier Part Number 1: 595-SN74LS38DBR; Supplier 2: Digi-Key; Supplier Part Number 2: 296-38243-2-ND; Supplier 3: Digi-Key; Supplier Part Number 3: 296-38243-1-ND; Supplier 4: Digi-Key; Supplier Part Number 4: 296-38243-6-ND; Input Type: TTL; Operating Temperature Range(C): 0 to 70; Code_JEDEC: MO-150; ComponentLink1Description: Manufacturer URL; ComponentLink1URL: http://www.ti.com/; ComponentLink2Description: Datasheet; ComponentLink2URL: http://www.ti.com/lit/ds/symlink/sn74ls38.pdf; ComponentLink3Description: Package Specification; ComponentLink3URL: http://www.ti.com/lit/ml/msso002e/msso002e.pdf
footprint DB0014A_N (SOP, 14-Leads, Body 5.6x6.5mm, Pitch 0.65mm, IPC Medium Density)
footprint DB0014A_M (SOP, 14-Leads, Body 5.6x6.5mm, Pitch 0.65mm, IPC Low Density)
footprint DB0014A_L (SOP, 14-Leads, Body 5.6x6.5mm, Pitch 0.65mm, IPC High Density)
part A pins: 1 1A (in), 2 1B (in), 3 1Y (oc)
part B pins: 4 2A (in), 5 2B (in), 6 2Y (oc)
part C pins: 8 3Y (oc), 9 3A (in), 10 3B (in)
part D pins: 11 4Y (oc), 12 4A (in), 13 4B (in)
part E pins: 7 GND (power), 14 VCC (power)

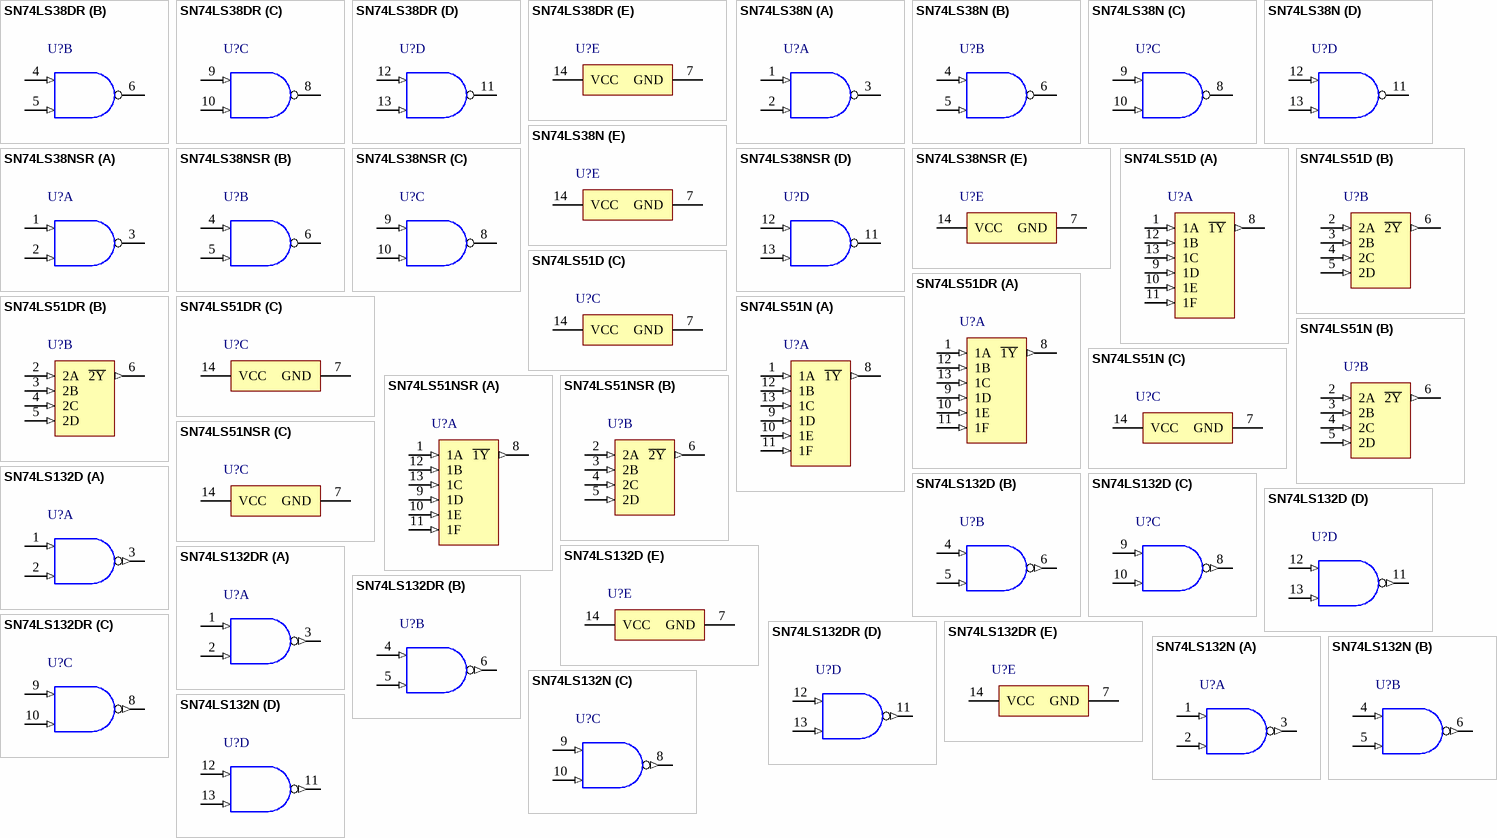
[diagram p156: symbols SN74LS38DR to SN74LS132N]

## SN74LS38DR
designator U?
Quad 2-input positive-NAND buffers with open collector outputs, D0014A, LARGE T&R; Generic Part Number: SN74LS38; Manufacturer: Texas Instruments; PartNumber: SN74LS38DR; VCC(Min)(V): 4.75; VCC(Max)(V): 5.25; Output Type: TTL; ICC @ Nom Voltage(Max)(mA): 0.012; Bits(#): 4; F @ Nom Voltage(Max)(Mhz): 35; Rating: Catalog; Technology Family: LS; Voltage(Nom)(V): 5; Schmitt Trigger: No; Output Drive (IOL/IOH)(Max)(mA): 0/-24; tpd @ Nom Voltage(Max)(ns): 32; DatasheetVersion: SDLS105; PackageReference: D0014A; Supplier 1: Mouser; Supplier Part Number 1: 595-SN74LS38DR; Supplier 2: Digi-Key; Supplier Part Number 2: 296-29733-2-ND; Supplier 3: Digi-Key; Supplier Part Number 3: 296-29733-1-ND; Supplier 4: Digi-Key; Supplier Part Number 4: 296-29733-6-ND; Input Type: TTL; Operating Temperature Range(C): 0 to 70; Code_JEDEC: MS-012; ComponentLink1Description: Manufacturer URL; ComponentLink1URL: http://www.ti.com/; ComponentLink2Description: Datasheet; ComponentLink2URL: http://www.ti.com/lit/ds/symlink/sn74ls38.pdf; ComponentLink3Description: Package Specification; ComponentLink3URL: http://www.ti.com/lit/ml/mpds177g/mpds177g.pdf
footprint D0014A_N (SOIC, 14-Leads, Body 8.75x4mm, Pitch 1.27mm, IPC Medium Density)
footprint D0014A_M (SOIC, 14-Leads, Body 8.75x4mm, Pitch 1.27mm, IPC Low Density)
footprint D0014A_L (SOIC, 14-Leads, Body 8.75x4mm, Pitch 1.27mm, IPC High Density)
part A pins: 1 1A (in), 2 1B (in), 3 1Y (oc)
part B pins: 4 2A (in), 5 2B (in), 6 2Y (oc)
part C pins: 8 3Y (oc), 9 3A (in), 10 3B (in)
part D pins: 11 4Y (oc), 12 4A (in), 13 4B (in)
part E pins: 7 GND (power), 14 VCC (power)

## SN74LS38N
designator U?
Quad 2-input positive-NAND buffers with open collector outputs, N0014A, TUBE; Generic Part Number: SN74LS38; Manufacturer: Texas Instruments; PartNumber: SN74LS38N; VCC(Min)(V): 4.75; VCC(Max)(V): 5.25; Output Type: TTL; ICC @ Nom Voltage(Max)(mA): 0.012; Bits(#): 4; F @ Nom Voltage(Max)(Mhz): 35; Rating: Catalog; Technology Family: LS; Voltage(Nom)(V): 5; Schmitt Trigger: No; Output Drive (IOL/IOH)(Max)(mA): 0/-24; tpd @ Nom Voltage(Max)(ns): 32; DatasheetVersion: SDLS105; PackageReference: N0014A; Supplier 1: Mouser; Supplier Part Number 1: 595-SN74LS38N; Supplier 2: Digi-Key; Supplier Part Number 2: 296-1664-5-ND; Input Type: TTL; Operating Temperature Range(C): 0 to 70; Code_JEDEC: MS-001; ComponentLink1Description: Manufacturer URL; ComponentLink1URL: http://www.ti.com/; ComponentLink2Description: Datasheet; ComponentLink2URL: http://www.ti.com/lit/ds/symlink/sn74ls38.pdf; ComponentLink3Description: Package Specification; ComponentLink3URL: http://www.ti.com/lit/ml/mpdi002c/mpdi002c.pdf
footprint N0014A (DIP, 14-Leads, Body 19.7x6.6mm, Pitch 2.54mm)
part A pins: 1 1A (in), 2 1B (in), 3 1Y (oc)
part B pins: 4 2A (in), 5 2B (in), 6 2Y (oc)
part C pins: 8 3Y (oc), 9 3A (in), 10 3B (in)
part D pins: 11 4Y (oc), 12 4A (in), 13 4B (in)
part E pins: 7 GND (power), 14 VCC (power)

## SN74LS38NSR
designator U?
Quad 2-input positive-NAND buffers with open collector outputs, NS0014A, LARGE T&R; Generic Part Number: SN74LS38; Manufacturer: Texas Instruments; PartNumber: SN74LS38NSR; VCC(Min)(V): 4.75; VCC(Max)(V): 5.25; Output Type: TTL; ICC @ Nom Voltage(Max)(mA): 0.012; Bits(#): 4; F @ Nom Voltage(Max)(Mhz): 35; Rating: Catalog; Technology Family: LS; Voltage(Nom)(V): 5; Schmitt Trigger: No; Output Drive (IOL/IOH)(Max)(mA): 0/-24; tpd @ Nom Voltage(Max)(ns): 32; DatasheetVersion: SDLS105; PackageReference: NS0014A; Supplier 1: Mouser; Supplier Part Number 1: 595-SN74LS38NSR; Supplier 2: Digi-Key; Supplier Part Number 2: 296-26515-2-ND; Supplier 3: Digi-Key; Supplier Part Number 3: 296-26515-1-ND; Supplier 4: Digi-Key; Supplier Part Number 4: 296-26515-6-ND; Input Type: TTL; Operating Temperature Range(C): 0 to 70; ComponentLink1Description: Manufacturer URL; ComponentLink1URL: http://www.ti.com/; ComponentLink2Description: Datasheet; ComponentLink2URL: http://www.ti.com/lit/ds/symlink/sn74ls38.pdf; ComponentLink3Description: Package Specification; ComponentLink3URL: http://www.ti.com/lit/ml/msop002a/msop002a.pdf
footprint NS0014A_N (SOIC,14-Leads,Body 10.5x5.6mm,Pitch 1.27mm,IPC Medium Density)
footprint NS0014A_M (SOIC,14-Leads,Body 10.5x5.6mm,Pitch 1.27mm,IPC Low Density)
footprint NS0014A_L (SOIC,14-Leads,Body 10.5x5.6mm,Pitch 0.4mm,IPC High Density)
part A pins: 1 1A (in), 2 1B (in), 3 1Y (oc)
part B pins: 4 2A (in), 5 2B (in), 6 2Y (oc)
part C pins: 8 3Y (oc), 9 3A (in), 10 3B (in)
part D pins: 11 4Y (oc), 12 4A (in), 13 4B (in)
part E pins: 7 GND (power), 14 VCC (power)

## SN74LS51D
designator U?
2-Wide 2-Input and 2-Wide 3-Input AND-OR-Invert Gates, D0014A, TUBE; Generic Part Number: SN74LS51; Manufacturer: Texas Instruments; PartNumber: SN74LS51D; VCC(Min)(V): 4.75; VCC(Max)(V): 5.25; Output Type: TTL; ICC @ Nom Voltage(Max)(mA): 0.014; Bits(#): 2; F @ Nom Voltage(Max)(Mhz): 35; Rating: Catalog; Technology Family: LS; Voltage(Nom)(V): 5; Schmitt Trigger: No; Output Drive (IOL/IOH)(Max)(mA): 0.4/-16; tpd @ Nom Voltage(Max)(ns): 20; DatasheetVersion: SDLS113; PackageReference: D0014A; Supplier 1: Mouser; Supplier Part Number 1: 595-SN74LS51D; Supplier 2: Digi-Key; Supplier Part Number 2: 296-34005-5-ND; Input Type: TTL; Operating Temperature Range(C): 0 to 70; Code_JEDEC: MS-012; ComponentLink1Description: Manufacturer URL; ComponentLink1URL: http://www.ti.com/; ComponentLink2Description: Datasheet; ComponentLink2URL: http://www.ti.com/lit/ds/symlink/sn74ls51.pdf; ComponentLink3Description: Package Specification; ComponentLink3URL: http://www.ti.com/lit/ml/mpds177g/mpds177g.pdf
footprint D0014A_N (SOIC, 14-Leads, Body 8.75x4mm, Pitch 1.27mm, IPC Medium Density)
footprint D0014A_M (SOIC, 14-Leads, Body 8.75x4mm, Pitch 1.27mm, IPC Low Density)
footprint D0014A_L (SOIC, 14-Leads, Body 8.75x4mm, Pitch 1.27mm, IPC High Density)
part A pins: 1 1A (in), 8 ~{1Y} (out), 9 1D (in), 10 1E (in), 11 1F (in), 12 1B (in), 13 1C (in)
part B pins: 2 2A (in), 3 2B (in), 4 2C (in), 5 2D (in), 6 ~{2Y} (out)
part C pins: 7 GND (power), 14 VCC (power)

## SN74LS51DR
designator U?
2-Wide 2-Input and 2-Wide 3-Input AND-OR-Invert Gates, D0014A, LARGE T&R; Generic Part Number: SN74LS51; Manufacturer: Texas Instruments; PartNumber: SN74LS51DR; VCC(Min)(V): 4.75; VCC(Max)(V): 5.25; Output Type: TTL; ICC @ Nom Voltage(Max)(mA): 0.014; Bits(#): 2; F @ Nom Voltage(Max)(Mhz): 35; Rating: Catalog; Technology Family: LS; Voltage(Nom)(V): 5; Schmitt Trigger: No; Output Drive (IOL/IOH)(Max)(mA): 0.4/-16; tpd @ Nom Voltage(Max)(ns): 20; DatasheetVersion: SDLS113; PackageReference: D0014A; Supplier 1: Mouser; Supplier Part Number 1: 595-SN74LS51DR; Supplier 2: Digi-Key; Supplier Part Number 2: 296-28985-2-ND; Supplier 3: Digi-Key; Supplier Part Number 3: 296-28985-1-ND; Supplier 4: Digi-Key; Supplier Part Number 4: 296-28985-6-ND; Input Type: TTL; Operating Temperature Range(C): 0 to 70; Code_JEDEC: MS-012; ComponentLink1Description: Manufacturer URL; ComponentLink1URL: http://www.ti.com/; ComponentLink2Description: Datasheet; ComponentLink2URL: http://www.ti.com/lit/ds/symlink/sn74ls51.pdf; ComponentLink3Description: Package Specification; ComponentLink3URL: http://www.ti.com/lit/ml/mpds177g/mpds177g.pdf
footprint D0014A_N (SOIC, 14-Leads, Body 8.75x4mm, Pitch 1.27mm, IPC Medium Density)
footprint D0014A_M (SOIC, 14-Leads, Body 8.75x4mm, Pitch 1.27mm, IPC Low Density)
footprint D0014A_L (SOIC, 14-Leads, Body 8.75x4mm, Pitch 1.27mm, IPC High Density)
part A pins: 1 1A (in), 8 ~{1Y} (out), 9 1D (in), 10 1E (in), 11 1F (in), 12 1B (in), 13 1C (in)
part B pins: 2 2A (in), 3 2B (in), 4 2C (in), 5 2D (in), 6 ~{2Y} (out)
part C pins: 7 GND (power), 14 VCC (power)